# Altium footprint library Pack_Bionics_PcbLib.PcbLib: 40 footprints (part 2 of 3)
Each footprint in its own frame and in the unit in brackets; x right, y up, seen from the top. Pads: shape width x height; smd on the part's side, far side on the other; paste and mask are expansions set on the pad; w line width, h text height; cw(c..) or ccw(c..) is an arc to the next point about the centre after c.
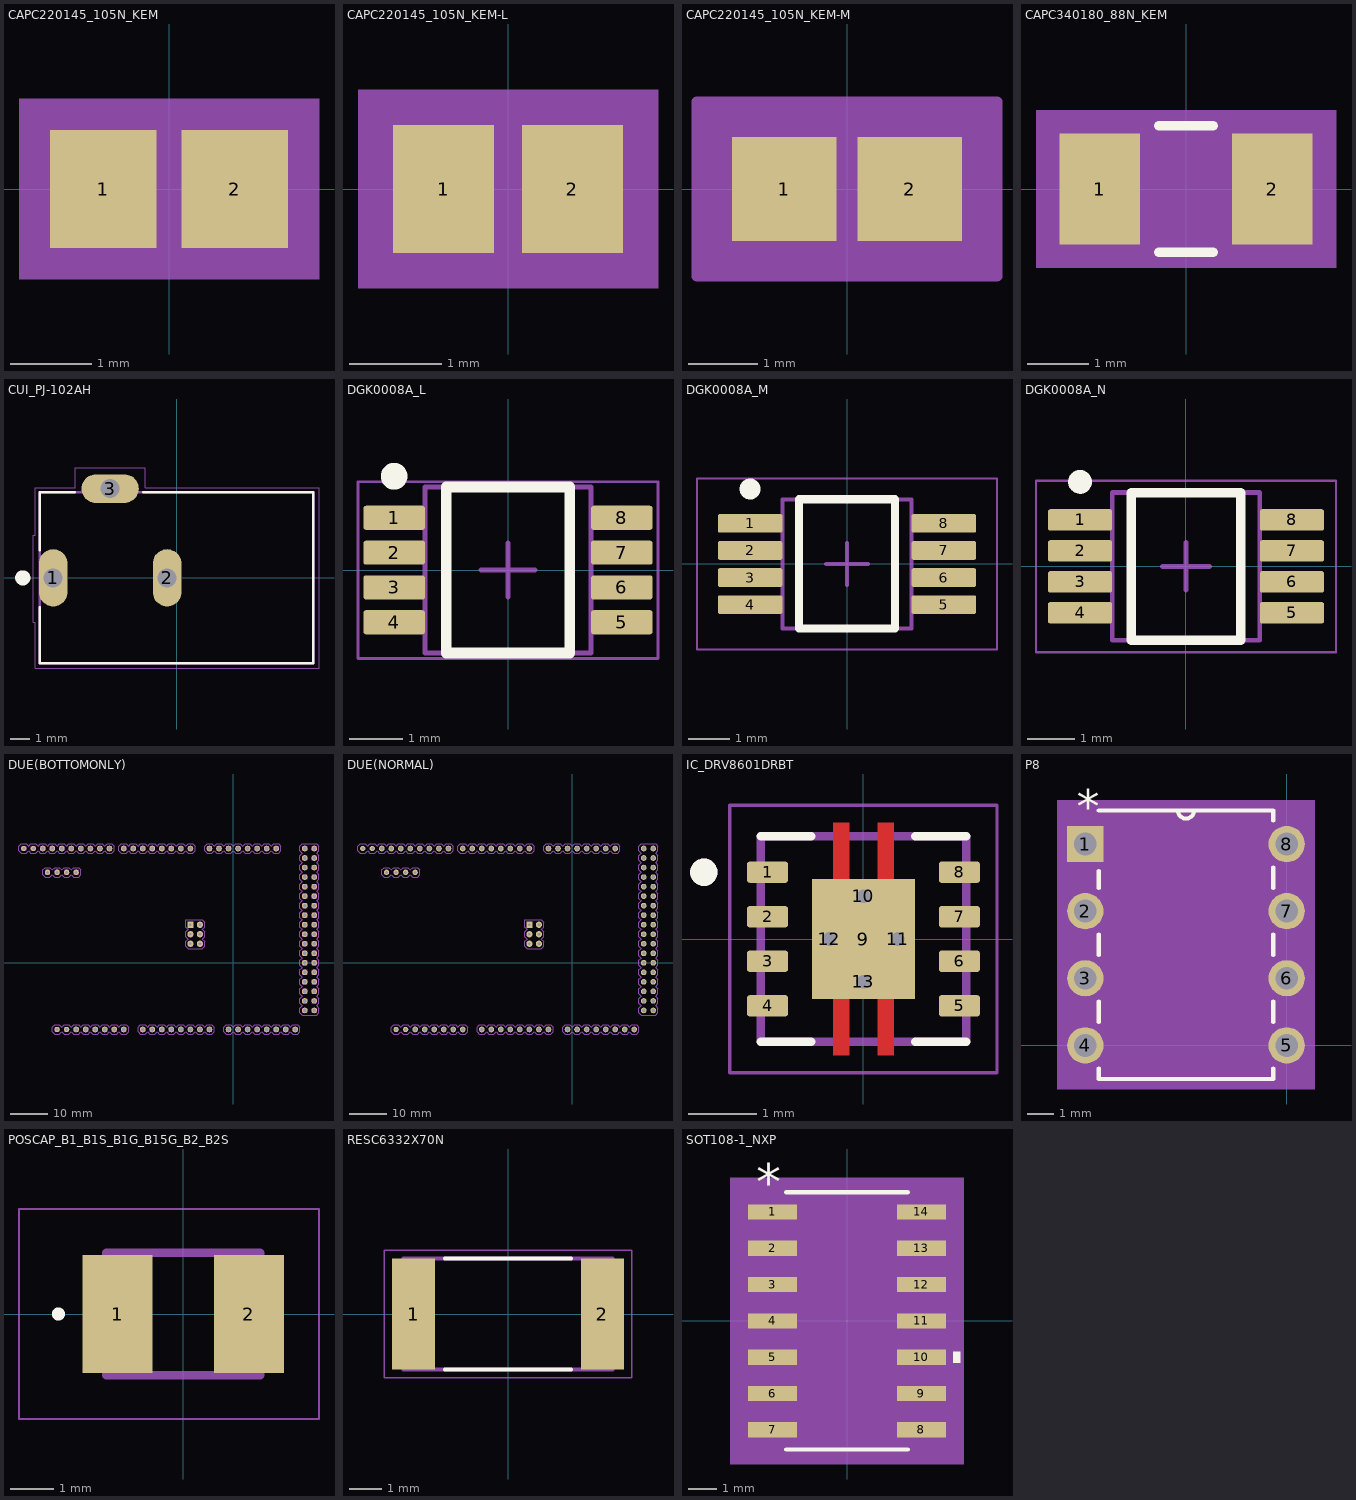
[diagram p1: the footprints below, top view; thin cyan lines are the x and y axes]

## CAPC220145_105N_KEM [mm]
pads (2):
  rect 1.306x1.45 smd paste+0 mask+0: 1(-0.803,0) 2(0.803,0)
Mechanical 5:
  region: 1.837,-1.106 -1.837,-1.106 -1.837,1.106 1.837,1.106
Mechanical 13:
  lines w0.025: -1.1,-0.725 -1.1,0.725 ; -1.1,-0.725 -0.35,-0.725 -0.35,0.725 -1.1,0.725 ; -1.1,-0.725 1.1,-0.725 ; -1.1,-0.725 -1.1,0.725 ; -1.1,0.725 1.1,0.725 ; 1.1,-0.725 0.35,-0.725 0.35,0.725 1.1,0.725 ; 1.1,-0.725 1.1,0.725 ; 1.1,-0.725 1.1,0.725
Mechanical 15:
  region: 1.71,-0.979 -1.71,-0.979 -1.71,0.979 1.71,0.979
  lines w0.152: -1.71,-0.979 -1.71,0.979 1.71,0.979 1.71,-0.979 -1.71,-0.979
3D body "CAPC220145_105N_KEM.step": height 1.05, standoff 0, extent -1.1,-0.725 1.1,0.725

## CAPC220145_105N_KEM-L [mil]
pads (2):
  rect 43.4x55.09 smd paste+0 mask+0: 1(-27.61,0) 2(27.61,0)
Mechanical 5:
  region: 64.31,-42.54 -64.31,-42.54 -64.31,42.54 64.31,42.54
Mechanical 13:
  lines w1: -43.31,-28.54 -43.31,28.54 ; -43.31,-28.54 -13.78,-28.54 -13.78,28.54 -43.31,28.54 ; -43.31,-28.54 43.31,-28.54 ; -43.31,-28.54 -43.31,28.54 ; -43.31,28.54 43.31,28.54 ; 43.31,-28.54 13.78,-28.54 13.78,28.54 43.31,28.54 ; 43.31,-28.54 43.31,28.54 ; 43.31,-28.54 43.31,28.54
Mechanical 15:
  region: 53.31,-31.54 -53.31,-31.54 -53.31,31.54 53.31,31.54
  lines w6: -53.31,-31.54 -53.31,31.54 53.31,31.54 53.31,-31.54 -53.31,-31.54
3D body "CAPC220145_105N_KEM.step": height 41.34, standoff 0, extent -43.31,-28.54 43.31,28.54

## CAPC220145_105N_KEM-M [mil]
pads (2):
  rect 59.4x59.09 smd paste+0 mask+0: 1(-35.61,0) 2(35.61,0)
Mechanical 5:
  region: 80.31,-44.54 -80.31,-44.54 -80.31,44.54 80.31,44.54
Mechanical 13:
  lines w1: -43.31,-28.54 -43.31,28.54 ; -43.31,-28.54 43.31,-28.54 ; -43.31,-28.54 -13.78,-28.54 -13.78,28.54 -43.31,28.54 ; -43.31,-28.54 -43.31,28.54 ; -43.31,28.54 43.31,28.54 ; 43.31,-28.54 43.31,28.54 ; 43.31,-28.54 43.31,28.54 ; 43.31,-28.54 13.78,-28.54 13.78,28.54 43.31,28.54
Mechanical 15:
  region: 85.31,-49.54 -85.31,-49.54 -85.31,49.54 85.31,49.54
  lines w6: -85.31,-49.54 85.31,-49.54 85.31,49.54 -85.31,49.54 -85.31,-49.54
3D body "CAPC220145_105N_KEM.step": height 41.34, standoff 0, extent -43.31,-28.54 43.31,28.54

## CAPC340180_88N_KEM [mm]
pads (2):
  rect 1.306x1.8 smd paste+0 mask+0: 1(-1.403,0) 2(1.403,0)
Top Overlay:
  lines w0.152: -0.442,-1.027 0.442,-1.027 ; -0.442,1.027 0.442,1.027
Mechanical 5:
  region: 2.437,-1.281 -2.437,-1.281 -2.437,1.281 2.437,1.281
Mechanical 13:
  lines w0.025: -1.7,-0.9 -1.7,0.9 ; -1.7,-0.9 1.7,-0.9 ; -1.7,-0.9 -0.95,-0.9 -0.95,0.9 -1.7,0.9 ; -1.7,-0.9 -1.7,0.9 ; -1.7,0.9 1.7,0.9 ; 1.7,-0.9 1.7,0.9 ; 1.7,-0.9 1.7,0.9 ; 1.7,-0.9 0.95,-0.9 0.95,0.9 1.7,0.9
Mechanical 15:
  region: 2.31,-1.154 -2.31,-1.154 -2.31,1.154 2.31,1.154
  lines w0.152: -2.31,-1.154 2.31,-1.154 2.31,1.154 -2.31,1.154 -2.31,-1.154
3D body "CAPC340180_88N_KEM.step": height 0.88, standoff 0, extent -1.7,-0.9 1.7,0.9

## CUI_PJ-102AH [mm]
pads (3):
  oval 1.508x3.016 hole 1 square: 1(-6.5,0) 2(-0.5,0)
  oval 3.016x1.508 hole 1 square: 3(-3.5,4.7)
Top Overlay:
  circle w0.4: c-8.1,0 r0.2
  lines w0.127: -7.2,-1.55 -7.2,-4.5 7.2,-4.5 7.2,4.5 -1.75,4.5 ; -7.2,1.45 -7.2,4.5 -5.35,4.5
Mechanical 13:
  lines w0.127: -7.2,-4.5 -7.2,4.5 7.2,4.5 7.2,-4.5 -7.2,-4.5
Mechanical 15:
  lines w0.05: -7.55,-2.35 -7.45,-2.35 -7.45,-4.75 7.5,-4.75 7.5,4.75 -1.65,4.75 -1.65,5.8 -5.35,5.8 -5.35,4.75 -7.45,4.75 -7.45,2.25 -7.55,2.25 -7.55,-2.35

## DGK0008A_L [mm] "TSOP, 8-Leads, Body 3.1x3.1mm, Pitch 0.65mm, IPC High Density"
height 1.1
pads (8):
  rrect22% 1.15x0.45 smd: 1(-2.125,0.975) 2(-2.125,0.325) 3(-2.125,-0.325) 4(-2.125,-0.975) 5(2.125,-0.975) 6(2.125,-0.325) 7(2.125,0.325) 8(2.125,0.975)
Top Overlay:
  circle w0.25: c-2.125,1.75 r0.125
  lines w0.2: -1.15,-1.55 -1.15,1.55 1.15,1.55 1.15,-1.55 -1.15,-1.55
Mechanical 1:
  text ".Designator" at -1.397,-0.254 h0.7
Mechanical 13:
  lines w0.1: -1.55,-1.55 -1.55,1.55 1.55,1.55 1.55,-1.55 -1.55,-1.55
Mechanical 15:
  lines w0.05: -2.8,-1.65 -2.8,1.65 2.8,1.65 2.8,-1.65 -2.8,-1.65
  lines w0.1: -0.5,0 0.5,0 ; 0,-0.5 0,0.5
3D body "MUY08A_ASM.stp": height 0.94, standoff -0.02, extent -2.451,-1.499 2.451,1.499

## DGK0008A_M [mm] "TSOP, 8-Leads, Body 3.1x3.1mm, Pitch 0.65mm, IPC Low Density"
height 1.1
pads (8):
  rrect22% 1.55x0.45 smd: 1(-2.325,0.975) 2(-2.325,0.325) 3(-2.325,-0.325) 4(-2.325,-0.975) 5(2.325,-0.975) 6(2.325,-0.325) 7(2.325,0.325) 8(2.325,0.975)
Top Overlay:
  circle w0.25: c-2.325,1.8 r0.125
  lines w0.2: -1.15,-1.55 1.15,-1.55 1.15,1.55 -1.15,1.55 -1.15,-1.55
Mechanical 1:
  text ".Designator" at -1.397,-0.254 h0.7
Mechanical 13:
  lines w0.1: -1.55,-1.55 1.55,-1.55 1.55,1.55 -1.55,1.55 -1.55,-1.55
Mechanical 15:
  lines w0.05: -3.6,-2.05 3.6,-2.05 3.6,2.05 -3.6,2.05 -3.6,-2.05
  lines w0.1: -0.5,0 0.5,0 ; 0,-0.5 0,0.5
3D body "MUY08A_ASM.stp": height 0.94, standoff -0.02, extent -2.451,-1.499 2.451,1.499

## DGK0008A_N [mm] "TSOP, 8-Leads, Body 3.1x3.1mm, Pitch 0.65mm, IPC Medium Density"
height 1.1
pads (8):
  rrect22% 1.35x0.45 smd: 1(-2.225,0.975) 2(-2.225,0.325) 3(-2.225,-0.325) 4(-2.225,-0.975) 5(2.225,-0.975) 6(2.225,-0.325) 7(2.225,0.325) 8(2.225,0.975)
Top Overlay:
  circle w0.25: c-2.225,1.775 r0.125
  lines w0.2: -1.15,-1.55 1.15,-1.55 1.15,1.55 -1.15,1.55 -1.15,-1.55
Mechanical 1:
  text ".Designator" at -1.397,-0.254 h0.7
Mechanical 13:
  lines w0.1: -1.55,-1.55 1.55,-1.55 1.55,1.55 -1.55,1.55 -1.55,-1.55
Mechanical 15:
  lines w0.05: -3.15,-1.8 3.15,-1.8 3.15,1.8 -3.15,1.8 -3.15,-1.8
  lines w0.1: -0.5,0 0.5,0 ; 0,-0.5 0,0.5
3D body "MUY08A_ASM.stp": height 0.94, standoff -0.02, extent -2.451,-1.499 2.451,1.499

## DUE(BOTTOMONLY) [mm]
pads (97):
  round 1.508 hole 1: 2(-16.51,30.48) 3(-19.05,30.48) 3V3(-39.37,-17.78) 4(-21.59,30.48) 5(-24.13,30.48) 5V(-36.83,-17.78) 5V_A(19.05,30.48) 5V_B(21.59,30.48) 6(-26.67,30.48) 7(-29.21,30.48) 8(-33.02,30.48) 9(-35.56,30.48) 10(-38.1,30.48) 11(-40.64,30.48) 12(-43.18,30.48) 13(-45.72,30.48) 22(19.05,27.94) 23(21.59,27.94) 24(19.05,25.4) 25(21.59,25.4) 26(19.05,22.86) 27(21.59,22.86) 28(19.05,20.32) 29(21.59,20.32) 30(19.05,17.78) 31(21.59,17.78) 32(19.05,15.24) 33(21.59,15.24) 34(19.05,12.7) 35(21.59,12.7) 36(19.05,10.16) 37(21.59,10.16) 38(19.05,7.62) 39(21.59,7.62) 40(19.05,5.08) 41(21.59,5.08) 42(19.05,2.54) 43(21.59,2.54) 44(19.05,0) 45(21.59,0) 46(19.05,-2.54) 47(21.59,-2.54) 48(19.05,-5.08) 49(21.59,-5.08) 50(19.05,-7.62) 51(21.59,-7.62) 52(19.05,-10.16) 53(21.59,-10.16) A0(-24.13,-17.78) A1(-21.59,-17.78) A2(-19.05,-17.78) A3(-16.51,-17.78) A4(-13.97,-17.78) A5(-11.43,-17.78) A6(-8.89,-17.78) A7(-6.35,-17.78) A8(-1.27,-17.78) A9(1.27,-17.78) A10(3.81,-17.78) A11(6.35,-17.78) AREF(-50.8,30.48) AREF1(-50.8,30.48) CANRX(13.97,-17.78) CANTX(16.51,-17.78) DAC0(8.89,-17.78) DAC1(11.43,-17.78) GND1(-48.26,30.48) GND_1(-34.29,-17.78) GND_2(-31.75,-17.78) GND_A(19.05,-12.7) GND_B(21.59,-12.7) RESET(-41.91,-17.78) RX0(-11.43,30.48) RX1(6.35,30.48) RX2(1.27,30.48) RX3(-3.81,30.48) SCL(11.43,30.48) SDA(8.89,30.48) TX0(-13.97,30.48) TX1(3.81,30.48) TX2(-1.27,30.48) TX3(-6.35,30.48) VIN(-29.21,-17.78)
  round 1.676 hole 0.7: 5V_ICSP(-8.89,5.08) GND_ICSP(-8.89,10.16) MOSI_ICSP(-8.89,7.62) RESET_ICSP(-11.43,5.08) SCK_ICSP(-11.43,7.62)
  round 1.422 hole 0.8: GND_DEBUG(-41.91,24.13) IOREF(-44.45,-17.78) NC(-46.99,-17.78) RESET_DEBUG(-49.53,24.13) SCL1(-55.88,30.48) SDA1(-53.34,30.48) SWCLK_DEBUG(-44.45,24.13) SWDIO_DEBUG(-46.99,24.13)
  rect 1.676x1.676 / inner round 1.549 / far side rect 1.676x1.676 hole 0.7: MISO_ICSP(-11.43,10.16)
Top Layer keep-out:
  region: -56.515,29.845 -56.515,31.115 -55.245,31.115 -55.245,29.845
  region: -53.975,29.845 -53.975,31.115 -52.705,31.115 -52.705,29.845
  region: -51.435,29.845 -51.435,31.115 -50.165,31.115 -50.165,29.845
  region: -48.895,29.845 -48.895,31.115 -47.625,31.115 -47.625,29.845
  region: -46.355,29.845 -46.355,31.115 -45.085,31.115 -45.085,29.845
  region: -43.815,29.845 -43.815,31.115 -42.545,31.115 -42.545,29.845
  region: -41.275,29.845 -41.275,31.115 -40.005,31.115 -40.005,29.845
  region: -38.735,29.845 -38.735,31.115 -37.465,31.115 -37.465,29.845
  region: -36.195,29.845 -36.195,31.115 -34.925,31.115 -34.925,29.845
  region: -33.655,29.845 -33.655,31.115 -32.385,31.115 -32.385,29.845
  region: -29.845,29.845 -29.845,31.115 -28.575,31.115 -28.575,29.845
  region: -27.305,29.845 -27.305,31.115 -26.035,31.115 -26.035,29.845
  region: -24.765,29.845 -24.765,31.115 -23.495,31.115 -23.495,29.845
  region: -22.225,29.845 -22.225,31.115 -20.955,31.115 -20.955,29.845
  region: -19.685,29.845 -19.685,31.115 -18.415,31.115 -18.415,29.845
  region: -17.145,29.845 -17.145,31.115 -15.875,31.115 -15.875,29.845
  region: -14.605,29.845 -14.605,31.115 -13.335,31.115 -13.335,29.845
  region: -12.065,29.845 -12.065,31.115 -10.795,31.115 -10.795,29.845
  region: -50.165,23.495 -50.165,24.765 -48.895,24.765 -48.895,23.495
  region: -47.625,23.495 -47.625,24.765 -46.355,24.765 -46.355,23.495
  region: -45.085,23.495 -45.085,24.765 -43.815,24.765 -43.815,23.495
  region: -42.545,23.495 -42.545,24.765 -41.275,24.765 -41.275,23.495
  region: -6.985,29.845 -6.985,31.115 -5.715,31.115 -5.715,29.845
  region: -4.445,29.845 -4.445,31.115 -3.175,31.115 -3.175,29.845
  region: -1.905,29.845 -1.905,31.115 -0.635,31.115 -0.635,29.845
  region: 0.635,29.845 0.635,31.115 1.905,31.115 1.905,29.845
  region: 3.175,29.845 3.175,31.115 4.445,31.115 4.445,29.845
  region: 5.715,29.845 5.715,31.115 6.985,31.115 6.985,29.845
  region: 8.255,29.845 8.255,31.115 9.525,31.115 9.525,29.845
  region: 10.795,29.845 10.795,31.115 12.065,31.115 12.065,29.845
  region: 18.415,29.845 18.415,31.115 19.685,31.115 19.685,29.845
  region: 20.955,29.845 20.955,31.115 22.225,31.115 22.225,29.845
  region: 18.415,27.305 18.415,28.575 19.685,28.575 19.685,27.305
  region: 20.955,27.305 20.955,28.575 22.225,28.575 22.225,27.305
  region: 18.415,24.765 18.415,26.035 19.685,26.035 19.685,24.765
  region: 20.955,24.765 20.955,26.035 22.225,26.035 22.225,24.765
  region: 18.415,22.225 18.415,23.495 19.685,23.495 19.685,22.225
  region: 20.955,22.225 20.955,23.495 22.225,23.495 22.225,22.225
  region: 18.415,19.685 18.415,20.955 19.685,20.955 19.685,19.685
  region: 20.955,19.685 20.955,20.955 22.225,20.955 22.225,19.685
  region: 18.415,17.145 18.415,18.415 19.685,18.415 19.685,17.145
  region: 20.955,17.145 20.955,18.415 22.225,18.415 22.225,17.145
  region: 18.415,14.605 18.415,15.875 19.685,15.875 19.685,14.605
  region: 20.955,14.605 20.955,15.875 22.225,15.875 22.225,14.605
  region: 18.415,12.065 18.415,13.335 19.685,13.335 19.685,12.065
  region: 20.955,12.065 20.955,13.335 22.225,13.335 22.225,12.065
  region: 18.415,9.525 18.415,10.795 19.685,10.795 19.685,9.525
  region: 20.955,9.525 20.955,10.795 22.225,10.795 22.225,9.525
  region: -12.065,9.525 -12.065,10.795 -10.795,10.795 -10.795,9.525
  region: -9.525,9.525 -9.525,10.795 -8.255,10.795 -8.255,9.525
  region: -12.065,6.985 -12.065,8.255 -10.795,8.255 -10.795,6.985
  region: -9.525,6.985 -9.525,8.255 -8.255,8.255 -8.255,6.985
  region: -12.065,4.445 -12.065,5.715 -10.795,5.715 -10.795,4.445
  region: -9.525,4.445 -9.525,5.715 -8.255,5.715 -8.255,4.445
  region: 18.415,6.985 18.415,8.255 19.685,8.255 19.685,6.985
  region: 18.415,4.445 18.415,5.715 19.685,5.715 19.685,4.445
  region: 18.415,1.905 18.415,3.175 19.685,3.175 19.685,1.905
  region: 18.415,-0.635 18.415,0.635 19.685,0.635 19.685,-0.635
  region: 18.415,-3.175 18.415,-1.905 19.685,-1.905 19.685,-3.175
  region: 18.415,-5.715 18.415,-4.445 19.685,-4.445 19.685,-5.715
  region: 18.415,-8.255 18.415,-6.985 19.685,-6.985 19.685,-8.255
  region: 18.415,-10.795 18.415,-9.525 19.685,-9.525 19.685,-10.795
  region: 18.415,-13.335 18.415,-12.065 19.685,-12.065 19.685,-13.335
  region: 20.955,-13.335 20.955,-12.065 22.225,-12.065 22.225,-13.335
  region: 20.955,-10.795 20.955,-9.525 22.225,-9.525 22.225,-10.795
  region: 20.955,-8.255 20.955,-6.985 22.225,-6.985 22.225,-8.255
  region: 20.955,-5.715 20.955,-4.445 22.225,-4.445 22.225,-5.715
  region: 20.955,-3.175 20.955,-1.905 22.225,-1.905 22.225,-3.175
  region: 20.955,-0.635 20.955,0.635 22.225,0.635 22.225,-0.635
  region: 20.955,1.905 20.955,3.175 22.225,3.175 22.225,1.905
  region: 20.955,4.445 20.955,5.715 22.225,5.715 22.225,4.445
  region: 20.955,6.985 20.955,8.255 22.225,8.255 22.225,6.985
  region: -47.625,-18.415 -47.625,-17.145 -46.355,-17.145 -46.355,-18.415
  region: -45.085,-18.415 -45.085,-17.145 -43.815,-17.145 -43.815,-18.415
  region: -42.545,-18.415 -42.545,-17.145 -41.275,-17.145 -41.275,-18.415
  region: -40.005,-18.415 -40.005,-17.145 -38.735,-17.145 -38.735,-18.415
  region: -37.465,-18.415 -37.465,-17.145 -36.195,-17.145 -36.195,-18.415
  region: -34.925,-18.415 -34.925,-17.145 -33.655,-17.145 -33.655,-18.415
  region: -32.385,-18.415 -32.385,-17.145 -31.115,-17.145 -31.115,-18.415
  region: -29.845,-18.415 -29.845,-17.145 -28.575,-17.145 -28.575,-18.415
  region: -24.765,-18.415 -24.765,-17.145 -23.495,-17.145 -23.495,-18.415
  region: -22.225,-18.415 -22.225,-17.145 -20.955,-17.145 -20.955,-18.415
  region: -19.685,-18.415 -19.685,-17.145 -18.415,-17.145 -18.415,-18.415
  region: -17.145,-18.415 -17.145,-17.145 -15.875,-17.145 -15.875,-18.415
  region: -14.605,-18.415 -14.605,-17.145 -13.335,-17.145 -13.335,-18.415
  region: -12.065,-18.415 -12.065,-17.145 -10.795,-17.145 -10.795,-18.415
  region: -9.525,-18.415 -9.525,-17.145 -8.255,-17.145 -8.255,-18.415
  region: -6.985,-18.415 -6.985,-17.145 -5.715,-17.145 -5.715,-18.415
  region: -1.905,-18.415 -1.905,-17.145 -0.635,-17.145 -0.635,-18.415
  region: 0.635,-18.415 0.635,-17.145 1.905,-17.145 1.905,-18.415
  region: 3.175,-18.415 3.175,-17.145 4.445,-17.145 4.445,-18.415
  region: 5.715,-18.415 5.715,-17.145 6.985,-17.145 6.985,-18.415
  region: 8.255,-18.415 8.255,-17.145 9.525,-17.145 9.525,-18.415
  region: 10.795,-18.415 10.795,-17.145 12.065,-17.145 12.065,-18.415
  region: 13.335,-18.415 13.335,-17.145 14.605,-17.145 14.605,-18.415
  region: 15.875,-18.415 15.875,-17.145 17.145,-17.145 17.145,-18.415
Mechanical 7:
  drawing of 564 lines, arcs and shapes, not listed
  text "Rst" at -42.545,-19.685 h1.97
  text "3v3" at -40.005,-19.685 h1.97
  text "5v" at -37.465,-19.685 h1.97
  text "Gnd" at -34.925,-19.685 h1.97
  text "Gnd" at -32.385,-19.685 h1.97
  text "Vin" at -29.845,-19.685 h1.97
  text "A0" at -24.765,-19.685 h1.97
  text "A1" at -22.225,-19.685 h1.97
  text "A2" at -19.685,-19.685 h1.97
  text "A3" at -17.145,-19.685 h1.97
  text "A4" at -14.605,-19.685 h1.97
  text "A5" at -12.065,-19.685 h1.97
  text "A6" at -9.525,-19.685 h1.97
  text "A7" at -6.985,-19.685 h1.97
  text "A8" at -1.905,-19.685 h1.97
  text "A9" at 0.635,-19.685 h1.97
  text "A10" at 3.175,-19.685 h1.97
  text "A11" at 5.715,-19.685 h1.97
  text "DAC0" at 8.255,-19.685 h1.97
  text "DAC1" at 10.795,-19.685 h1.97
  text "cnRX" at 13.335,-19.685 h1.97
  text "cnTX" at 15.875,-19.685 h1.97
  text "Aref" at -50.165,32.385 h1.97
  text "Gnd" at -47.625,32.385 h1.97
  text "13" at -45.085,32.385 h1.97
  text "12" at -42.545,32.385 h1.97
  text "11" at -40.005,32.385 h1.97
  text "10" at -37.465,32.385 h1.97
  text "9" at -34.925,32.385 h1.97
  text "8" at -32.385,32.385 h1.97
  text "7" at -28.575,32.385 h1.97
  text "6" at -26.035,32.385 h1.97
  text "5" at -23.495,32.385 h1.97
  text "4" at -20.955,32.385 h1.97
  text "3" at -18.415,32.385 h1.97
  text "2" at -15.875,32.385 h1.97
  text "Tx0" at -13.335,32.385 h1.97
  text "Rx0" at -10.795,32.385 h1.97
  text "Tx3(14)" at -5.715,32.385 h1.97
  text "Rx3(15)" at -3.175,32.385 h1.97
  text "Tx2(16)" at -0.635,32.385 h1.97
  text "Rx2(17)" at 1.905,32.385 h1.97
  text "Tx1(18)" at 4.445,32.385 h1.97
  text "Rx1(19)" at 6.985,32.385 h1.97
  text "SCL(21)" at 12.065,32.385 h1.97
  text "SDA(20)" at 9.525,32.385 h1.97
  text "5v" at 17.145,31.115 h1.97
  text "22" at 17.145,28.575 h1.97
  text "24" at 17.145,26.035 h1.97
  text "26" at 17.145,23.495 h1.97
  text "28" at 17.145,20.955 h1.97
  text "30" at 17.145,18.415 h1.97
  text "32" at 17.145,15.875 h1.97
  text "34" at 17.145,13.335 h1.97
  text "36" at 17.145,10.795 h1.97
  text "38" at 17.145,8.255 h1.97
  text "40" at 17.145,5.715 h1.97
  text "42" at 17.145,3.175 h1.97
  text "44" at 17.145,0.635 h1.97
  text "46" at 17.145,-1.905 h1.97
  text "48" at 17.145,-4.445 h1.97
  text "50" at 17.145,-6.985 h1.97
  text "52" at 17.145,-9.525 h1.97
  text "Gnd" at 17.145,-12.065 h1.97
  text "5v" at 23.495,29.845 h1.97
  text "23" at 23.495,27.305 h1.97
  text "25" at 23.495,24.765 h1.97
  text "27" at 23.495,22.225 h1.97
  text "29" at 23.495,19.685 h1.97
  text "31" at 23.495,17.145 h1.97
  text "33" at 23.495,14.605 h1.97
  text "35" at 23.495,12.065 h1.97
  text "37" at 23.495,9.525 h1.97
  text "39" at 23.495,6.985 h1.97
  text "41" at 23.495,4.445 h1.97
  text "43" at 23.495,1.905 h1.97
  text "45" at 23.495,-0.635 h1.97
  text "47" at 23.495,-3.175 h1.97
  text "49" at 23.495,-5.715 h1.97
  text "51" at 23.495,-8.255 h1.97
  text "53" at 23.495,-10.795 h1.97
  text "Gnd" at 23.495,-13.335 h1.97
  text "IOref" at -45.085,-19.685 h1.97
  text "SDA1" at -52.705,32.385 h1.97
  text "SCL1" at -55.245,32.385 h1.97
  text "MISO" at -13.335,10.795 h1.97
  text "SCK" at -13.335,8.255 h1.97
  text "MOSI" at -6.985,6.985 h1.97
  text "RESET" at -13.335,5.715 h1.97
  text "5V" at -6.985,9.525 h1.97
  text "GND" at -6.985,4.445 h1.97
  text "GND" at -42.545,22.225 h1.97
  text "SWCLK" at -45.085,22.225 h1.97
  text "SWDIO" at -47.625,22.225 h1.97
  text "RESET" at -50.165,22.225 h1.97

## DUE(NORMAL) [mm]
pads (97):
  round 1.508 hole 1: 2(-16.51,30.48) 3(-19.05,30.48) 3V3(-39.37,-17.78) 4(-21.59,30.48) 5(-24.13,30.48) 5V(-36.83,-17.78) 5V_A(19.05,30.48) 5V_B(21.59,30.48) 6(-26.67,30.48) 7(-29.21,30.48) 8(-33.02,30.48) 9(-35.56,30.48) 10(-38.1,30.48) 11(-40.64,30.48) 12(-43.18,30.48) 13(-45.72,30.48) 22(19.05,27.94) 23(21.59,27.94) 24(19.05,25.4) 25(21.59,25.4) 26(19.05,22.86) 27(21.59,22.86) 28(19.05,20.32) 29(21.59,20.32) 30(19.05,17.78) 31(21.59,17.78) 32(19.05,15.24) 33(21.59,15.24) 34(19.05,12.7) 35(21.59,12.7) 36(19.05,10.16) 37(21.59,10.16) 38(19.05,7.62) 39(21.59,7.62) 40(19.05,5.08) 41(21.59,5.08) 42(19.05,2.54) 43(21.59,2.54) 44(19.05,0) 45(21.59,0) 46(19.05,-2.54) 47(21.59,-2.54) 48(19.05,-5.08) 49(21.59,-5.08) 50(19.05,-7.62) 51(21.59,-7.62) 52(19.05,-10.16) 53(21.59,-10.16) A0(-24.13,-17.78) A1(-21.59,-17.78) A2(-19.05,-17.78) A3(-16.51,-17.78) A4(-13.97,-17.78) A5(-11.43,-17.78) A6(-8.89,-17.78) A7(-6.35,-17.78) A8(-1.27,-17.78) A9(1.27,-17.78) A10(3.81,-17.78) A11(6.35,-17.78) AREF(-50.8,30.48) AREF1(-50.8,30.48) CANRX(13.97,-17.78) CANTX(16.51,-17.78) DAC0(8.89,-17.78) DAC1(11.43,-17.78) GND1(-48.26,30.48) GND_1(-34.29,-17.78) GND_2(-31.75,-17.78) GND_A(19.05,-12.7) GND_B(21.59,-12.7) RESET(-41.91,-17.78) RX0(-11.43,30.48) RX1(6.35,30.48) RX2(1.27,30.48) RX3(-3.81,30.48) SCL(11.43,30.48) SDA(8.89,30.48) TX0(-13.97,30.48) TX1(3.81,30.48) TX2(-1.27,30.48) TX3(-6.35,30.48) VIN(-29.21,-17.78)
  round 1.676 hole 0.7: 5V_ICSP(-8.89,5.08) GND_ICSP(-8.89,10.16) MOSI_ICSP(-8.89,7.62) RESET_ICSP(-11.43,5.08) SCK_ICSP(-11.43,7.62)
  round 1.422 hole 0.8: GND_DEBUG(-41.91,24.13) IOREF(-44.45,-17.78) NC(-46.99,-17.78) RESET_DEBUG(-49.53,24.13) SCL1(-55.88,30.48) SDA1(-53.34,30.48) SWCLK_DEBUG(-44.45,24.13) SWDIO_DEBUG(-46.99,24.13)
  rect 1.676x1.676 / inner round 1.549 / far side rect 1.676x1.676 hole 0.7: MISO_ICSP(-11.43,10.16)
Mechanical 7:
  drawing of 564 lines, arcs and shapes, not listed
  text "RESET" at -50.165,22.225 h1.97
  text "SWDIO" at -47.625,22.225 h1.97
  text "SWCLK" at -45.085,22.225 h1.97
  text "GND" at -42.545,22.225 h1.97
  text "GND" at -6.985,4.445 h1.97
  text "5V" at -6.985,9.525 h1.97
  text "RESET" at -13.335,5.715 h1.97
  text "MOSI" at -6.985,6.985 h1.97
  text "SCK" at -13.335,8.255 h1.97
  text "MISO" at -13.335,10.795 h1.97
  text "SCL1" at -55.245,32.385 h1.97
  text "SDA1" at -52.705,32.385 h1.97
  text "IOref" at -45.085,-19.685 h1.97
  text "Gnd" at 23.495,-13.335 h1.97
  text "53" at 23.495,-10.795 h1.97
  text "51" at 23.495,-8.255 h1.97
  text "49" at 23.495,-5.715 h1.97
  text "47" at 23.495,-3.175 h1.97
  text "45" at 23.495,-0.635 h1.97
  text "43" at 23.495,1.905 h1.97
  text "41" at 23.495,4.445 h1.97
  text "39" at 23.495,6.985 h1.97
  text "37" at 23.495,9.525 h1.97
  text "35" at 23.495,12.065 h1.97
  text "33" at 23.495,14.605 h1.97
  text "31" at 23.495,17.145 h1.97
  text "29" at 23.495,19.685 h1.97
  text "27" at 23.495,22.225 h1.97
  text "25" at 23.495,24.765 h1.97
  text "23" at 23.495,27.305 h1.97
  text "5v" at 23.495,29.845 h1.97
  text "Gnd" at 17.145,-12.065 h1.97
  text "52" at 17.145,-9.525 h1.97
  text "50" at 17.145,-6.985 h1.97
  text "48" at 17.145,-4.445 h1.97
  text "46" at 17.145,-1.905 h1.97
  text "44" at 17.145,0.635 h1.97
  text "42" at 17.145,3.175 h1.97
  text "40" at 17.145,5.715 h1.97
  text "38" at 17.145,8.255 h1.97
  text "36" at 17.145,10.795 h1.97
  text "34" at 17.145,13.335 h1.97
  text "32" at 17.145,15.875 h1.97
  text "30" at 17.145,18.415 h1.97
  text "28" at 17.145,20.955 h1.97
  text "26" at 17.145,23.495 h1.97
  text "24" at 17.145,26.035 h1.97
  text "22" at 17.145,28.575 h1.97
  text "5v" at 17.145,31.115 h1.97
  text "SDA(20)" at 9.525,32.385 h1.97
  text "SCL(21)" at 12.065,32.385 h1.97
  text "Rx1(19)" at 6.985,32.385 h1.97
  text "Tx1(18)" at 4.445,32.385 h1.97
  text "Rx2(17)" at 1.905,32.385 h1.97
  text "Tx2(16)" at -0.635,32.385 h1.97
  text "Rx3(15)" at -3.175,32.385 h1.97
  text "Tx3(14)" at -5.715,32.385 h1.97
  text "Rx0" at -10.795,32.385 h1.97
  text "Tx0" at -13.335,32.385 h1.97
  text "2" at -15.875,32.385 h1.97
  text "3" at -18.415,32.385 h1.97
  text "4" at -20.955,32.385 h1.97
  text "5" at -23.495,32.385 h1.97
  text "6" at -26.035,32.385 h1.97
  text "7" at -28.575,32.385 h1.97
  text "8" at -32.385,32.385 h1.97
  text "9" at -34.925,32.385 h1.97
  text "10" at -37.465,32.385 h1.97
  text "11" at -40.005,32.385 h1.97
  text "12" at -42.545,32.385 h1.97
  text "13" at -45.085,32.385 h1.97
  text "Gnd" at -47.625,32.385 h1.97
  text "Aref" at -50.165,32.385 h1.97
  text "cnTX" at 15.875,-19.685 h1.97
  text "cnRX" at 13.335,-19.685 h1.97
  text "DAC1" at 10.795,-19.685 h1.97
  text "DAC0" at 8.255,-19.685 h1.97
  text "A11" at 5.715,-19.685 h1.97
  text "A10" at 3.175,-19.685 h1.97
  text "A9" at 0.635,-19.685 h1.97
  text "A8" at -1.905,-19.685 h1.97
  text "A7" at -6.985,-19.685 h1.97
  text "A6" at -9.525,-19.685 h1.97
  text "A5" at -12.065,-19.685 h1.97
  text "A4" at -14.605,-19.685 h1.97
  text "A3" at -17.145,-19.685 h1.97
  text "A2" at -19.685,-19.685 h1.97
  text "A1" at -22.225,-19.685 h1.97
  text "A0" at -24.765,-19.685 h1.97
  text "Vin" at -29.845,-19.685 h1.97
  text "Gnd" at -32.385,-19.685 h1.97
  text "Gnd" at -34.925,-19.685 h1.97
  text "5v" at -37.465,-19.685 h1.97
  text "3v3" at -40.005,-19.685 h1.97
  text "Rst" at -42.545,-19.685 h1.97

## IC_DRV8601DRBT [mm]
pads (13):
  rrect25% 0.6x0.31 smd mask+0: 1(-1.4,0.975) 2(-1.4,0.325) 3(-1.4,-0.325) 4(-1.4,-0.975) 5(1.4,-0.975) 6(1.4,-0.325) 7(1.4,0.325) 8(1.4,0.975)
  rect 1.5x1.75 smd paste-2 mask+0: 9(0,0)
  round 0.4 hole 0.2 mask+0: 10(0,0.625) 11(0.5,0) 12(-0.5,0) 13(0,-0.625)
Top Layer:
  region: 0.44,0.875 0.75,0.875 0.75,-0.875 0.44,-0.875 0.44,-1.7 0.21,-1.7 0.21,-0.875 -0.21,-0.875 -0.21,-1.7 -0.44,-1.7 -0.44,-0.875 -0.75,-0.875 -0.75,0.875 -0.44,0.875 -0.44,1.7 -0.21,1.7 -0.21,0.875 0.21,0.875 0.21,1.7 0.44,1.7
Top Overlay:
  circle w0.2: c-2.33,0.975 r0.1
  lines w0.127: -1.5,-1.5 -0.76,-1.5 ; -1.5,1.5 -0.76,1.5 ; 0.76,-1.5 1.5,-1.5 ; 0.76,1.5 1.5,1.5
Top Paste:
  region: -0.21,-1.7 -0.44,-1.7 -0.44,-0.975 -0.21,-0.975
  region: 0.44,-1.7 0.21,-1.7 0.21,-0.975 0.44,-0.975
  region: 0.44,0.975 0.21,0.975 0.21,1.7 0.44,1.7
  region: -0.21,0.975 -0.44,0.975 -0.44,1.7 -0.21,1.7
  region: 0.67,-0.775 -0.67,-0.775 -0.67,0.775 0.67,0.775
Top Solder:
  region: 1.77,-1.2 1.03,-1.2 1.03,-0.75 1.77,-0.75
  region: 1.77,-0.55 1.03,-0.55 1.03,-0.1 1.77,-0.1
  region: 1.77,0.1 1.03,0.1 1.03,0.55 1.77,0.55
  region: -1.03,-1.2 -1.77,-1.2 -1.77,-0.75 -1.03,-0.75
  region: -1.03,-0.55 -1.77,-0.55 -1.77,-0.1 -1.03,-0.1
  region: -1.03,0.1 -1.77,0.1 -1.77,0.55 -1.03,0.55
  region: 1.77,0.75 1.03,0.75 1.03,1.2 1.77,1.2
  region: -1.03,0.75 -1.77,0.75 -1.77,1.2 -1.03,1.2
  region: 0.51,0.945 0.82,0.945 0.82,-0.945 0.51,-0.945 0.51,-1.77 0.14,-1.77 0.14,-0.945 -0.14,-0.945 -0.14,-1.77 -0.51,-1.77 -0.51,-0.945 -0.82,-0.945 -0.82,0.945 -0.51,0.945 -0.51,1.77 -0.14,1.77 -0.14,0.945 0.14,0.945 0.14,1.77 0.51,1.77
Mechanical 13:
  circle w0.2: c-2.33,0.975 r0.1
  lines w0.127: -1.5,-1.5 -1.5,1.5 1.5,1.5 1.5,-1.5 -1.5,-1.5
Mechanical 15:
  lines w0.05: -1.95,-1.95 -1.95,1.95 1.95,1.95 1.95,-1.95 -1.95,-1.95

## P8 [mil]
pads (8):
  rect 54x54 hole 34: 1(-300,300)
  round 54 hole 34: 2(-300,200) 3(-300,100) 4(-300,0) 5(0,0) 6(0,100) 7(0,200) 8(0,300)
Top Overlay:
  lines w6: -280,-34.76 -280,-50 -20,-50 -20,-34.76 ; -280,34.76 -280,65.24 ; -280,134.76 -280,165.24 ; -280,234.76 -280,259.9 ; -280,350 -20,350 -20,334.76 ; -162,350 ccw(c-150,350) -138,350 ; -20,34.76 -20,65.24 ; -20,134.76 -20,165.24 ; -20,234.76 -20,265.24
  text "*" at -312.5,332 h50
Mechanical 5:
  region: 42,-65 -342,-65 -342,365 42,365
Mechanical 13:
  lines w0: -162,350 ccw(c-150,350) -138,350
  lines w1: -317,-17 -317,17 -280,17 -280,-17 -317,-17 ; -317,83 -317,117 -280,117 -280,83 -317,83 ; -317,183 -317,217 -280,217 -280,183 -317,183 ; -317,283 -317,317 -280,317 -280,283 -317,283 ; -280,-50 -20,-50 -20,350 -280,350 -280,-50 ; -20,-17 -20,17 17,17 17,-17 -20,-17 ; -20,83 -20,117 17,117 17,83 -20,83 ; -20,183 -20,217 17,217 17,183 -20,183 ; -20,283 -20,317 17,317 17,283 -20,283
  text "*" at -312.5,332 h50
Mechanical 15:
  region: 37,-60 -337,-60 -337,360 37,360
  lines w6: -337,-60 37,-60 37,360 -337,360 -337,-60
3D body "P8.step": height 205.12, standoff -100, extent -310,-50 10,350

## PCBComponent_1 [mil]

## POSCAP_B1_B1S_B1G_B15G_B2_B2S [mm]
pads (2):
  rect 1.6x2.7 smd: 1(-1.5,0) 2(1.5,0)
Top Overlay:
  circle w0.2: c-2.85,0 r0.05
Mechanical 1:
  text "'.Designator'" at -2.235,-0.881 h1.02
Mechanical 13:
  lines w0.2: -1.75,-1.4 1.75,-1.4 1.75,1.4 -1.75,1.4 -1.75,-1.4
Mechanical 15:
  lines w0.05: -3.75,-2.4 3.1,-2.4 3.1,2.4 -3.75,2.4 -3.75,-2.4
3D body "25TQC5R6M.stp": height 1.88, standoff -0.02, extent -1.75,-1.397 1.75,1.403

## RESC6332X70N [mm]
pads (2):
  rect 1.33x3.46 smd: 1(-2.944,0) 2(2.944,0)
Top Overlay:
  lines w0.127: -1.96,-1.73 1.96,-1.73 ; -1.96,1.73 1.96,1.73
Mechanical 13:
  lines w0.127: -3.25,-1.73 -3.25,1.73 3.25,1.73 3.25,-1.73 -3.25,-1.73
Mechanical 15:
  lines w0.05: -3.858,-1.981 -3.858,1.981 3.858,1.981 3.858,-1.981 -3.858,-1.981

## SOT108-1_NXP [mil]
pads (14):
  rect 67x21 smd paste+0 mask+0: 1(-102.5,150) 2(-102.5,100) 3(-102.5,50) 4(-102.5,0) 5(-102.5,-50) 6(-102.5,-100) 7(-102.5,-150) 8(102.5,-150) 9(102.5,-100) 10(102.5,-50) 11(102.5,0) 12(102.5,50) 13(102.5,100) 14(102.5,150)
Top Overlay:
  region: 146,-42.5 156,-42.5 156,-57.5 146,-57.5
  lines w6: -83.5,-177 83.5,-177 ; -83.5,177 83.5,177
  text "*" at -125,166 h50
Mechanical 5:
  region: 161,-197 -161,-197 -161,197 161,197
Mechanical 13:
  lines w0: -12,172 ccw(c0,172) 12,172
  lines w1: -122,-159.5 -122,-140.5 -78.5,-140.5 -78.5,-159.5 -122,-159.5 ; -122,-109.5 -122,-90.5 -78.5,-90.5 -78.5,-109.5 -122,-109.5 ; -122,-59.5 -122,-40.5 -78.5,-40.5 -78.5,-59.5 -122,-59.5 ; -122,-9.5 -122,9.5 -78.5,9.5 -78.5,-9.5 -122,-9.5 ; -122,40.5 -122,59.5 -78.5,59.5 -78.5,40.5 -122,40.5 ; -122,90.5 -122,109.5 -78.5,109.5 -78.5,90.5 -122,90.5 ; -122,140.5 -122,159.5 -78.5,159.5 -78.5,140.5 -122,140.5 ; -78.5,-172 78.5,-172 78.5,172 -78.5,172 -78.5,-172 ; 78.5,-159.5 78.5,-140.5 122,-140.5 122,-159.5 78.5,-159.5 ; 78.5,-109.5 78.5,-90.5 122,-90.5 122,-109.5 78.5,-109.5 ; 78.5,-59.5 78.5,-40.5 122,-40.5 122,-59.5 78.5,-59.5 ; 78.5,-9.5 78.5,9.5 122,9.5 122,-9.5 78.5,-9.5 ; 78.5,40.5 78.5,59.5 122,59.5 122,40.5 78.5,40.5 ; 78.5,90.5 78.5,109.5 122,109.5 122,90.5 78.5,90.5 ; 78.5,140.5 78.5,159.5 122,159.5 122,140.5 78.5,140.5
  text "*" at -76,119 h50
Mechanical 15:
  region: -88.5,-170.5 -146,-170.5 -146,170.5 -88.5,170.5 -88.5,182 88.5,182 88.5,170.5 146,170.5 146,-170.5 88.5,-170.5 88.5,-182 -88.5,-182
  lines w6: -146,-170.5 -146,170.5 -88.5,170.5 -88.5,182 88.5,182 88.5,170.5 146,170.5 146,-170.5 88.5,-170.5 88.5,-182 -88.5,-182 -88.5,-170.5 -146,-170.5
3D body "SOT108-1_NXP.step": height 69.09, standoff 0, extent -122.01,-172.01 122.01,172.01